# EAGLE library part PIC18F14Q41-I_SO (library SamacSys_Parts)
8-bit Microcontrollers - MCU Op Amp, 16KB Flash, 1K RAM, 512 EEPROM, 12b ADCC, 8b DAC, DMA, 16-bit PWM, PPS, UART, SPI/I2C Source: Datasheet <https://componentsearchengine.com/Datasheets/2/PIC18F14Q41-I_SO.pdf>
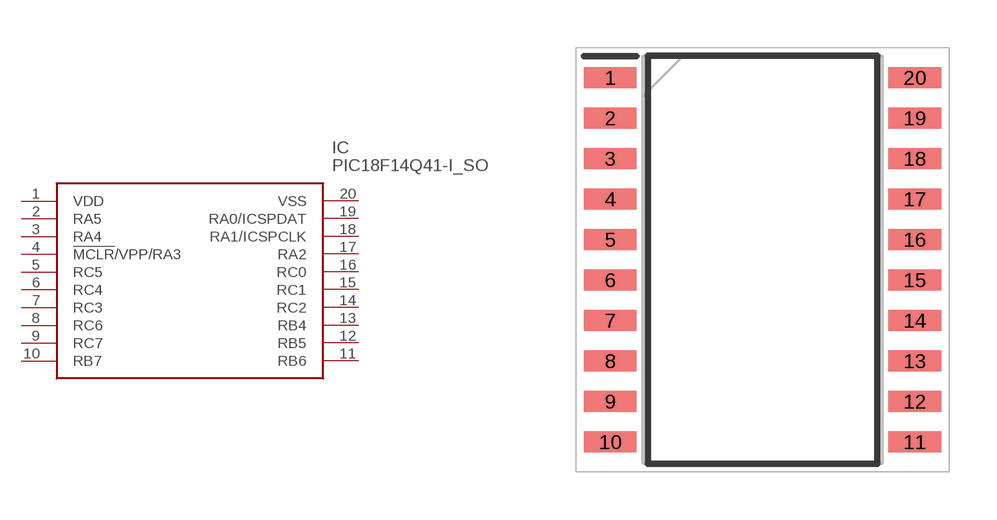
[diagram p3: symbol with the pads of SOIC127P1030X265-20N; footprint SOIC127P1030X265-20N]

Designator prefix IC

## PIC18F14Q41-I_SO (Description: 8-bit Microcontrollers - MCU Op Amp, 16KB Flash, 1K RAM, 512 EEPROM, 12b ADCC, 8b DAC, DMA, 16-bit PWM, PPS, UART, SPI/I2C; Height: 2.65mm; Manufacturer_Name: Microchip; Manufacturer_Part_Number: PIC18F14Q41-I/SO; Mouser_Part_Number: 579-PIC18F14Q41-I/SO; Mouser_Price-Stock: https://www.mouser.co.uk/ProductDetail/Microchip-Technology/PIC18F14Q41-I-SO?qs=W%2FMpXkg%252BdQ5jNCMT7LkJWg%3D%3D)  [SOIC127P1030X265-20N]
1  VDD
2  RA5
3  RA4
4  !MCLR!/VPP/RA3
5  RC5
6  RC4
7  RC3
8  RC6
9  RC7
10  RB7
11  RB6
12  RB5
13  RB4
14  RC2
15  RC1
16  RC0
17  RA2
18  RA1/ICSPCLK
19  RA0/ICSPDAT
20  VSS

## Footprint SOIC127P1030X265-20N (pad centres in mm)
PIC18F14Q41-I/SO*1
smd 1.65 x 0.65: 1 -4.775,5.715; 2 -4.775,4.445; 3 -4.775,3.175; 4 -4.775,1.905; 5 -4.775,0.635; 6 -4.775,-0.635; 7 -4.775,-1.905; 8 -4.775,-3.175; 9 -4.775,-4.445; 10 -4.775,-5.715; 11 4.775,-5.715; 12 4.775,-4.445; 13 4.775,-3.175; 14 4.775,-1.905; 15 4.775,-0.635; 16 4.775,0.635; 17 4.775,1.905; 18 4.775,3.175; 19 4.775,4.445; 20 4.775,5.715